# Altium schematic symbol library POT_3296W.Schlib: 1 symbol
Pins are listed as number, name and electrical type; pins without a type are passive.

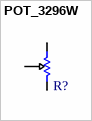
[diagram p0: symbol POT_3296W]

## POT_3296W
designator R?
Potentiometer
pins: 1, 2, 3
2 alternate drawings of the same symbol